# Altium footprint library COM16346.PcbLib: 1 footprints
Each footprint in its own frame and in the unit in brackets; x right, y up, seen from the top. Pads: shape width x height; smd on the part's side, far side on the other; paste and mask are expansions set on the pad; w line width, h text height; cw(c..) or ccw(c..) is an arc to the next point about the centre after c.
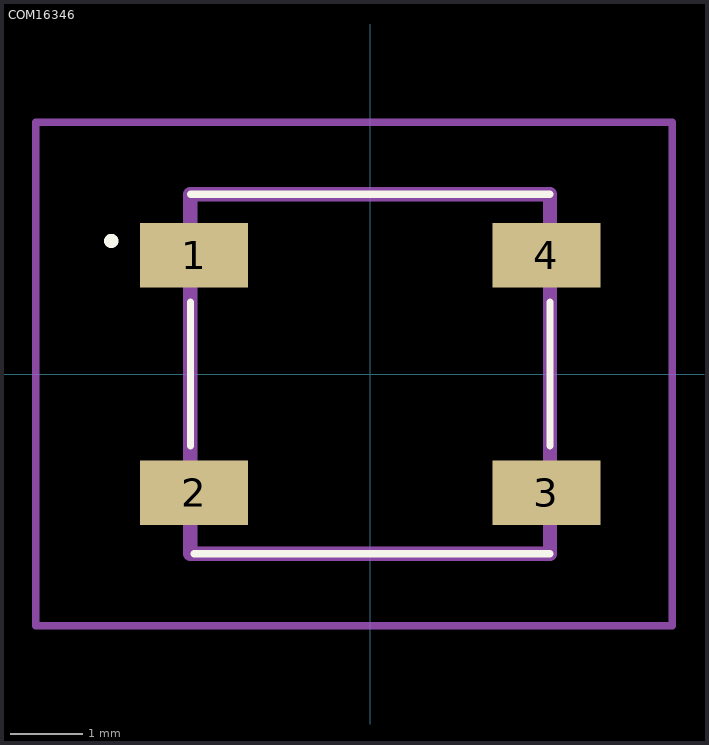
[diagram p0: the footprint, top view; thin cyan lines are the x and y axes]

## COM16346 [mm]
pads (4):
  rect 1.5x0.9 smd: 1(-2.45,1.65) 2(-2.45,-1.65) 3(2.45,-1.65) 4(2.45,1.65)
Top Overlay:
  lines w0.1: -2.5,-1 -2.5,1 ; -2.5,2.5 2.5,2.5 ; -2.45,-2.5 2.5,-2.5 ; 2.5,-1 2.5,1 ; -3.6,1.8 -3.6,1.8 ; -3.6,1.8 ccw(c-3.6,1.85) -3.6,1.9 ; -3.6,1.8 cw(c-3.6,1.85) -3.6,1.9 ; -3.6,1.9 -3.6,1.9
Mechanical 15:
  lines w0.2: -2.5,-2.5 2.5,-2.5 2.5,2.5 -2.5,2.5 -2.5,-2.5
Mechanical 20:
  lines w0.1: -4.65,-3.5 4.2,-3.5 4.2,3.5 -4.65,3.5 -4.65,-3.5
3D body "COM-16346.stp": height 5.8, standoff -4.65, extent -10,-3.376 10,3.376